# Altium integrated library Microcircuits.IntLib: 13 symbols
Pins are listed as number, name and electrical type; pins without a type are passive.

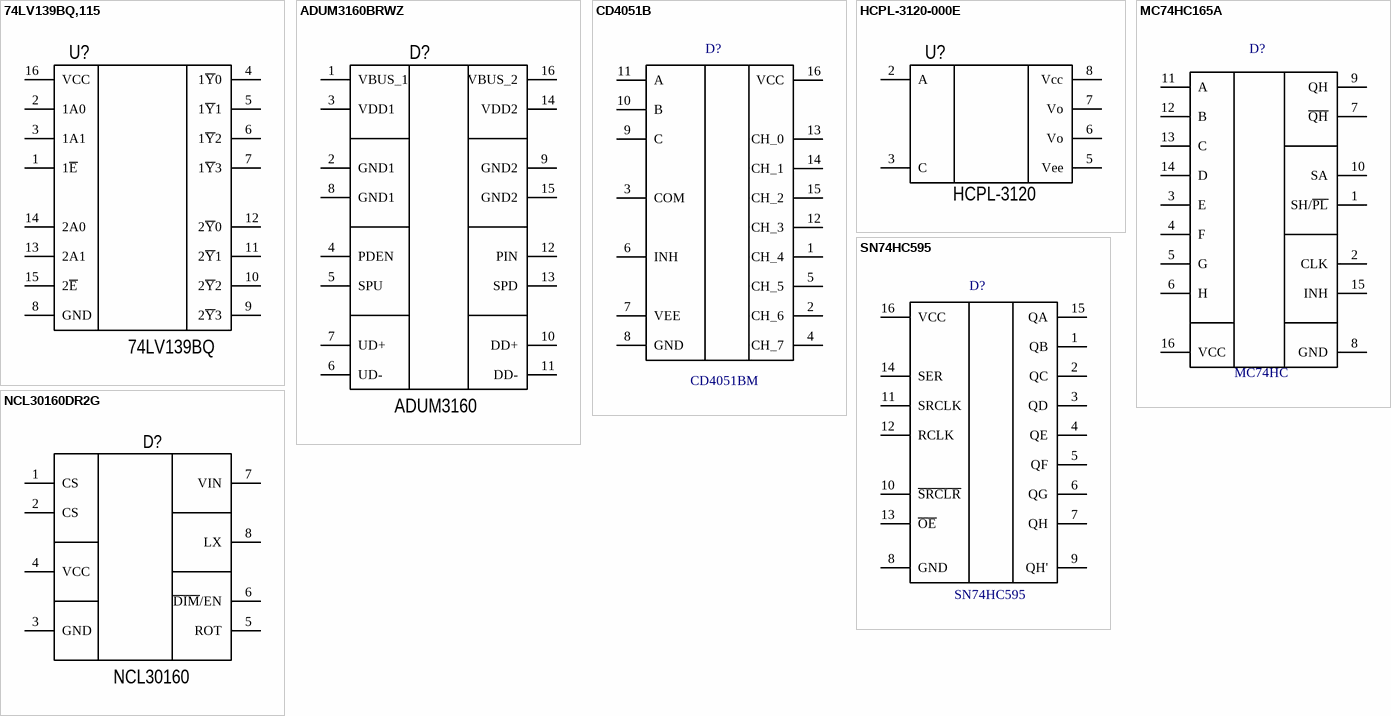
[diagram p0: symbols 74LV139BQ,115 to SN74HC595]

## 74LV139BQ,115
designator U?, comment 74LV139BQ
Decoder/Demultiplexer 1 x 2:4 16-DHVQFN (2.5x3.5); Manufacture: NXP USA Inc.; Model: 74LV139BQ,115; Name: Демультиплексор; Case: 16-DHVQFN; HelpURL: https://www.digikey.com/en/products/detail/nxp-usa-inc/74LV139BQ-115/1966030; Value: 74LV139BQ
footprint 16-DHVQFN
pins: 1 1~{E}, 2 1A0, 3 1A1, 4 1~{Y}0, 5 1~{Y}1, 6 1~{Y}2, 7 1~{Y}3, 8 GND, 9 2~{Y}3, 10 2~{Y}2, 11 2~{Y}1, 12 2~{Y}0, 13 2A1, 14 2A0, 15 2~{E}, 16 VCC

## ADUM3160BRWZ
designator D?, comment ADUM3160
USB Digital Isolator 2500Vrms 1 Channel 12Mbps 25kV/µs CMTI 16-SOIC (0.295", 7.50mm Width); Manufacture: Analog Devices Inc.; Model: ADUM3160BRWZ; Name: Микросхема (USB - изолятор); Case: SOIC-16; HelpURL: https://www.digikey.com/en/products/detail/analog-devices-inc/ADUM3160BRWZ/2361054; Value: ADUM3160
footprint 16-SOIC (DW) (16-SOWB)(SO16L) (DW0016A)
pins: 1 VBUS_1, 2 GND1, 3 VDD1, 4 PDEN, 5 SPU, 6 UD-, 7 UD+, 8 GND1, 9 GND2, 10 DD+, 11 DD-, 12 PIN, 13 SPD, 14 VDD2, 15 GND2, 16 VBUS_2

## CD4051B
designator D?, comment CD4051BM
IC MUX/DEMUX 8X1 16SOIC; Manufacture: Texas Instruments; Name: Микросхема; Case: =Footprint; HelpURL: https://www.digikey.com/en/products/detail/texas-instruments/CD4051BM/13492371; Model: CD4051BM; Value: CD4051BM
footprint 16-TSSOP (PW) (PW0016A)
footprint 16-SOIC (D) (D (R-PDSO-G16))
footprint 16-SO (NS) (NS (R-PDSO-G16))
footprint 16-PDIP (N) (N (R-PDIP-T16))
footprint 16-CDIP (J) (N (R-PDIP-T16))
pins: 1 CH_4, 2 CH_6, 3 COM, 4 CH_7, 5 CH_5, 6 INH, 7 VEE, 8 GND, 9 C, 10 B, 11 A, 12 CH_3, 13 CH_0, 14 CH_1, 15 CH_2, 16 VCC

## HCPL-3120-000E
designator U?, comment HCPL-3120
Optocoupler; Manufacture: Broadcom Limited; Model: HCPL-3120-000E; Name: Оптопара; Case: DIP-8; HelpURL: https://www.digikey.com/en/products/detail/broadcom-limited/HCPL-3120-000E/669903?s=N4IgTCBcDaIBYGMAOAbAzARjABgLTYIFMQBdAXyA; Value: HCPL-3120
footprint 8-DIP (0.300", 7.62mm)
pins: 2 A, 3 C, 5 Vee, 6 Vo, 7 Vo, 8 Vcc

## MC74HC165A
designator D?, comment MC74HC
Manufacture: ON Semiconductor; Model: MC74HC165A; Name: Микросхема; Case: TSSOP-16; HelpURL: https://www.digikey.com/product-detail/en/on-semiconductor/MC74HC165ADTR2G/MC74HC165ADTR2GOSTR-ND/1479889; Value: MC74HC
footprint 16-TSSOP
pins: 1 SH/~{PL}, 2 CLK, 3 E, 4 F, 5 G, 6 H, 7 ~{QH}, 8 GND, 9 QH, 10 SA, 11 A, 12 B, 13 C, 14 D, 15 INH, 16 VCC

## NCL30160DR2G
designator D?, comment NCL30160
LED Driver IC 1 Output DC DC Regulator Step-Down (Buck) PWM Dimming 1A 8-SOIC; Manufacture: onsemi; Model: NCL30160DR2G; Name: Светодиодный драйвер; Case: 8-SOIC (0.154", 3.90mm Width); HelpURL: https://www.digikey.com/en/products/detail/onsemi/ncl30160dr2g/3062085; Value: NCL30160
footprint 8-SOIC (0.154", 3.90mm Width) (SOIC, 8-Leads, Body 4,90x3,90mm, Pitch 1,27mm, IPC Medium Density)
pins: 1 CS "Вход", 2 CS "Вход", 3 GND "Вход", 4 VCC "Вход", 5 ROT "Вход", 6 ~{DIM}/EN "Вход", 7 VIN "Вход", 8 LX "Вход"

## SN74HC595
designator D?
Shift Shift Register 1 Element 8 Bit 16-SSOP; Manufacture: ON Semiconductor; Model: SN74HC595ADB; Name: Микросхема; Case: =Footprint; HelpURL: https://www.digikey.com/en/products/filter/logic-shift-registers/712?s=N4IgTCBcDaIMoDkDsAWAEgYQKwE4sgF0AaEfSUABygEYSKrJqAGJgX1aA; Value: SN74HC595
footprint 16-TSSOP (PW)
footprint 16-SOIC (D) (D (R-PDSO-G16))
footprint 16-SOIC (DW) (16-SOWB)(SO16L) (DW0016A)
footprint 16-SSOP (DB) (DB (R-PDSO-G16))
footprint 16-SO (NS) (NS (R-PDSO-G16))
footprint 16-PDIP (N) (N (R-PDIP-T16))
pins: 1 QB, 2 QC, 3 QD, 4 QE, 5 QF, 6 QG, 7 QH, 8 GND, 9 QH', 10 ~{SRCLR}, 11 SRCLK, 12 RCLK, 13 ~{OE}, 14 SER, 15 QA, 16 VCC


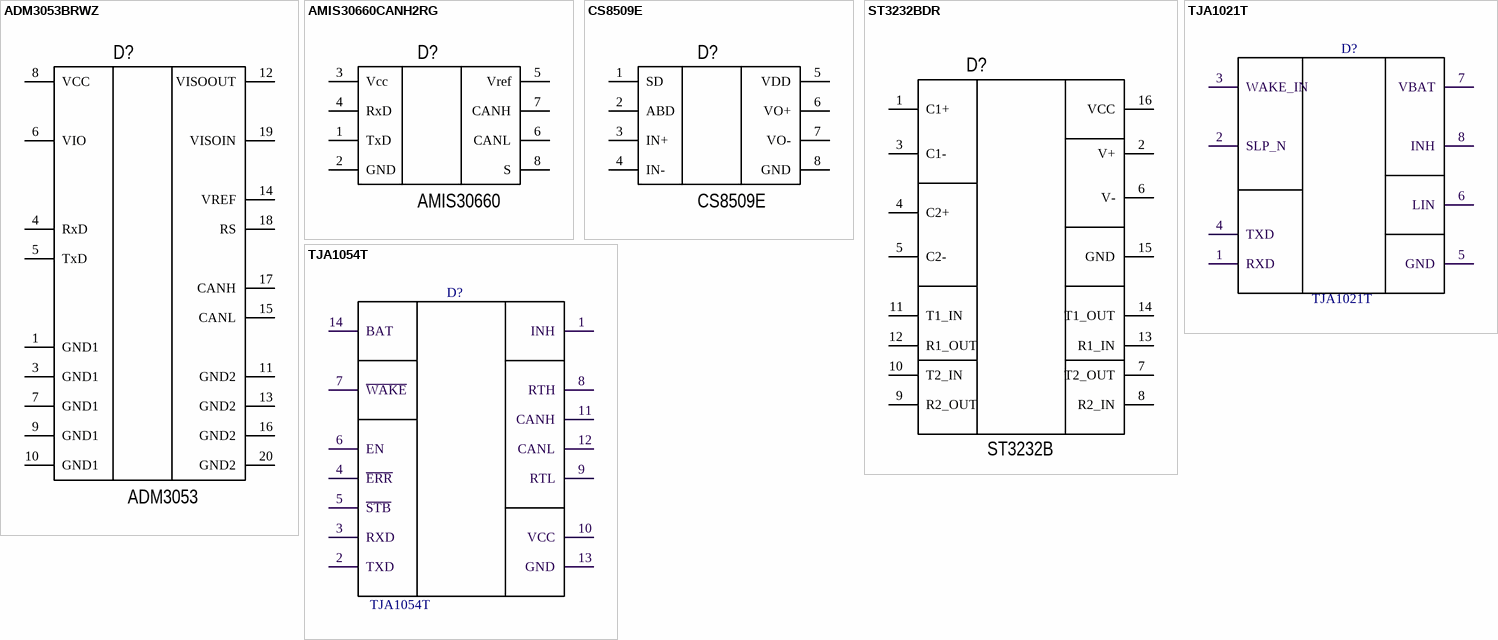
[diagram p1: symbols ADM3053BRWZ to TJA1054T]

## ADM3053BRWZ
designator D?, comment ADM3053
1/1 Transceiver, Isolated - CAN 20-SOIC; Manufacture: Analog Devices Inc.; Model: ADM3053BRWZ; Name: CAN трансивер; Case: 20-SOIC; HelpURL: https://www.digikey.com/en/products/detail/analog-devices-inc/ADM3053BRWZ/2709332; Value: ADM3053
footprint 20-SOIC (0.295", 7.50mm Width)
pins: 1 GND1, 3 GND1, 4 RxD, 5 TxD, 6 VIO, 7 GND1, 8 VCC, 9 GND1, 10 GND1, 11 GND2, 12 VISOOUT, 13 GND2, 14 VREF, 15 CANL, 16 GND2, 17 CANH, 18 RS, 19 VISOIN, 20 GND2

## AMIS30660CANH2RG
designator D?, comment AMIS30660
CAN transceiver; Manufacture: ON Semiconductor; Name: CAN трансивер; Case: SOIC-8; HelpURL: https://www.digikey.com/en/products/detail/on-semiconductor/AMIS30660CANH2RG/1914826; Value: AMIS30660; Model: AMIS30660
footprint 8-SOIC (0.154", 3.90mm Width) (SOIC, 8-Leads, Body 4,90x3,90mm, Pitch 1,27mm, IPC Medium Density)
pins: 1 TxD, 2 GND, 3 Vcc, 4 RxD, 5 Vref, 6 CANL, 7 CANH, 8 S

## CS8509E
designator D?
CAN transceiver; Name: Аудио усилитель; Case: SOIC-8; HelpURL: http://www.szczkjgs.com/UploadFiles/fujian/3783/CS8509.pdf; Value: CS8509E; Model: CS8509E
footprint 8-SOIC (0.154", 3.90mm Width) (SOIC, 8-Leads, Body 4,90x3,90mm, Pitch 1,27mm, IPC Medium Density)
pins: 1 SD, 2 ABD, 3 IN+, 4 IN-, 5 VDD, 6 VO+, 7 VO-, 8 GND

## ST3232BDR
designator D?, comment ST3232B
2/2 Transceiver Full RS232 16-SO; Manufacture: STMicroelectronics; Model: ST3232BDR; Name: Трансивер RS232; Case: 16-SO; HelpURL: https://www.digikey.com/en/products/detail/stmicroelectronics/ST3232BDR/1039244; Value: ST3232B
footprint 16-SO (NS) (NS (R-PDSO-G16))
footprint 16-SOIC (DW) (16-SOWB)(SO16L) (DW0016A)
footprint 16-TSSOP
pins: 1 C1+ "Вход", 2 V+ "Вход", 3 C1- "Вход", 4 C2+ "Вход", 5 C2- "Вход", 6 V- "Вход", 7 T2_OUT "Вход", 8 R2_IN "Вход", 9 R2_OUT "Вход", 10 T2_IN "Вход", 11 T1_IN "Вход", 12 R1_OUT "Вход", 13 R1_IN "Вход", 14 T1_OUT "Вход", 15 GND, 16 VCC

## TJA1021T
designator D?
LIN transceiver; Manufacture: NXP USA Inc.; Model: TJA1021T/10/C,118; Name: LIN трансивер; Case: 8-SOIC (0.154", 3.90mm Width); HelpURL: https://www.digikey.com/product-detail/en/nxp-usa-inc/TJA1021T-10-C118/568-4643-2-ND/1973465; Value: TJA1021T
footprint 8-SOIC (0.154", 3.90mm Width) (SOIC, 8-Leads, Body 4,90x3,90mm, Pitch 1,27mm, IPC Medium Density)
pins: 1 RXD "Вход", 2 SLP_N "Вход", 3 WAKE_IN "Вход", 4 TXD "Вход", 5 GND "Вход", 6 LIN "Вход", 7 VBAT "Вход", 8 INH "Вход"

## TJA1054T
designator D?
CAN transceiver; Manufacture: NXP USA Inc.; Model: TJA1054T/N1M518-ND; Name: CAN трансивер; Case: 14-SOIC (0.154", 3.90mm Width); HelpURL: https://www.digikey.com/product-detail/en/nxp-usa-inc/TJA1054T-N1M518/TJA1054T-N1M518-ND/4058802; Value: TJA1054T
footprint 14-SOIC (0.154", 3.90mm Width) - duplicate (SOIC, 14-Leads, Body 8,65x3,90mm, Pitch 1,27mm, IPC Medium Density)
pins: 1 INH "Вход", 2 TXD "Вход", 3 RXD "Вход", 4 ~{ERR} "Вход", 5 ~{STB} "Вход", 6 EN "Вход", 7 ~{WAKE} "Вход", 8 RTH "Вход", 9 RTL "Вход", 10 VCC "Вход", 11 CANH "Вход", 12 CANL "Вход", 13 GND "Вход", 14 BAT "Вход"